# EAGLE library part MCM6229A (library memory-sram)
MEMORY
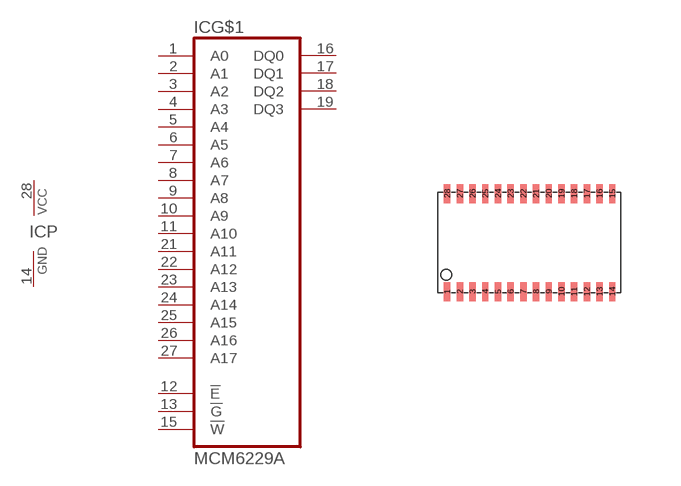
[diagram p15: symbol with the pads of SOJ28/4; footprint SOJ28/4]

Designator prefix IC; gates G$1=CM6229A P=PWRN

## MCM6229A  [SOJ28/4]
1  G$1:A0  in
2  G$1:A1  in
3  G$1:A2  in
4  G$1:A3  in
5  G$1:A4  in
6  G$1:A5  in
7  G$1:A6  in
8  G$1:A7  in
9  G$1:A8  in
10  G$1:A9  in
11  G$1:A10  in
12  G$1:!E  in
13  G$1:!G  in
14  P:GND  pwr
15  G$1:!W  in
16  G$1:DQ0
17  G$1:DQ1
18  G$1:DQ2
19  G$1:DQ3
21  G$1:A11  in
22  G$1:A12  in
23  G$1:A13  in
24  G$1:A14  in
25  G$1:A15  in
26  G$1:A16  in
27  G$1:A17  in
28  P:VCC  pwr

## Footprint SOJ28/4 (pad centres in mm)
Small Outline J-Bend
smd 0.159 x 0.476: 1 -2.064,-1.226; 2 -1.746,-1.226; 3 -1.429,-1.226; 4 -1.111,-1.226; 5 -0.794,-1.226; 6 -0.476,-1.226; 7 -0.159,-1.226; 8 0.159,-1.226; 9 0.476,-1.226; 10 0.794,-1.226; 11 1.111,-1.226; 12 1.429,-1.226; 13 1.746,-1.226; 14 2.064,-1.226; 15 2.064,1.226; 16 1.746,1.226; 17 1.429,1.226; 18 1.111,1.226; 19 0.794,1.226; 20 0.476,1.226; 21 0.159,1.226; 22 -0.159,1.226; 23 -0.476,1.226; 24 -0.794,1.226; 25 -1.111,1.226; 26 -1.429,1.226; 27 -1.746,1.226; 28 -2.064,1.226